# Altium footprint library footprint.PcbLib: 20 footprints (part 2 of 2)
Each footprint in its own frame and in the unit in brackets; x right, y up, seen from the top. Pads: shape width x height; smd on the part's side, far side on the other; paste and mask are expansions set on the pad; w line width, h text height; cw(c..) or ccw(c..) is an arc to the next point about the centre after c.
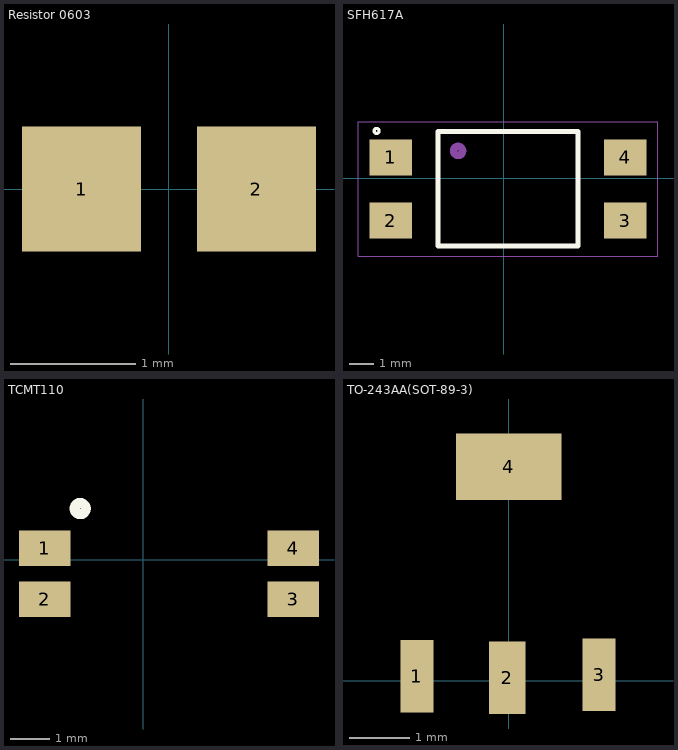
[diagram p1: the footprints below, top view; thin cyan lines are the x and y axes]

## Resistor 0603 [mm]
pads (2):
  rect 0.95x1 smd: 1(-0.7,0) 2(0.7,0)
3D body "Library-Panasonic0603.STEP": height 0.45, standoff 0, extent -0.8,-0.41 0.8,0.41

## SFH617A [mm]
pads (4):
  rect 1.7x1.45 smd: 1(-4.521,0.833) 2(-4.521,-1.707) 3(4.879,-1.707) 4(4.879,0.833)
Top Overlay:
  circle w0.127: c-5.094,1.893 r0.1
  lines w0.2: -2.621,1.853 -2.621,-2.727 2.979,-2.727 2.979,1.853 ; -2.621,1.863 2.979,1.863
Mechanical 4:
  circle w0.3: c-1.824,1.093 r0.18
  circle w0.3: c-1.824,1.093 r0.18
Mechanical 16:
  lines w0.05: -5.841,-3.137 6.199,-3.137 6.199,2.263 -5.841,2.263 -5.841,-3.137
3D body "SFH617A.STEP": height 3.7, standoff 0.01, extent -4.98,-2.79 5.18,1.79

## TCMT110 [mm]
pads (4):
  rect 1.3x0.9 smd: 1(-2.5,0.3) 2(-2.5,-1) 3(3.8,-1) 4(3.8,0.3)
Top Overlay:
  circle w0.254: c-1.6,1.3 r0.141
3D body "User Library-ACPL-217-56DE.STEP": height 2.01, standoff -0.12, extent -2.9,-1.6 4.1,1

## TO-243AA(SOT-89-3) [mm]
pads (4):
  rect 0.55x1.2 smd: 1(-1.524,0.076) 3(1.499,0.102)
  rect 0.6x1.2 smd: 2(-0.025,0.051)
  rect 1.75x1.1 smd: 4(0,3.556)
3D body "SOT89-3.STEP": height 1.55, standoff 0.01, extent -2.265,-0.449 2.235,3.801